# Altium schematic symbol library SamacSys.SchLib: 11 symbols
Pins are listed as number, name and electrical type; pins without a type are passive.

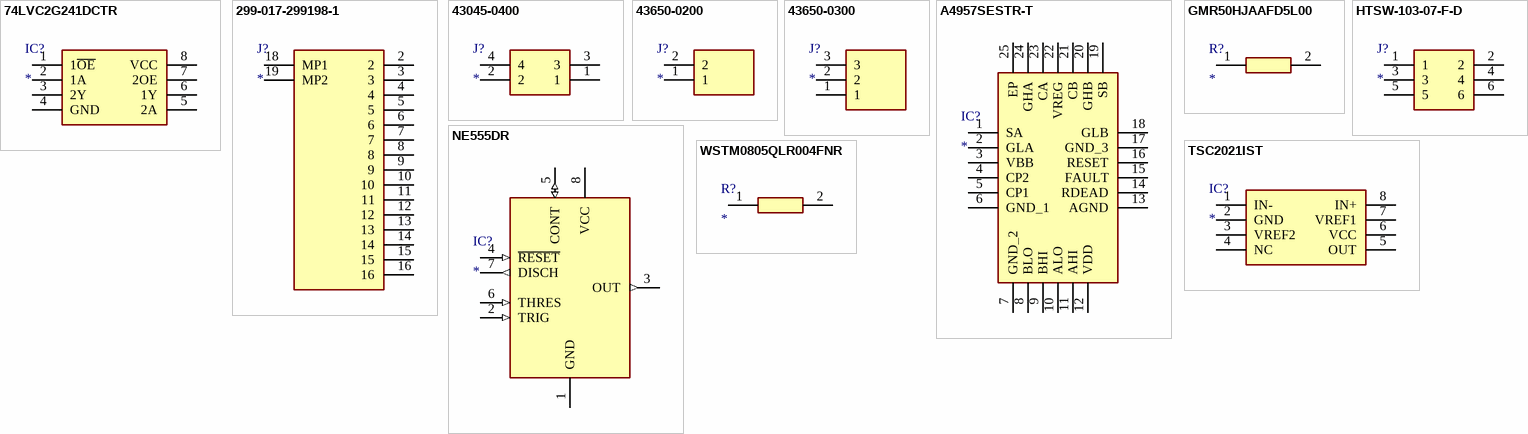
[diagram p0: symbols 74LVC2G241DCTR to WSTM0805QLR004FNR]

## 74LVC2G241DCTR
designator IC?
Integrated Circuit; Manufacturer_Name: Texas Instruments; Manufacturer_Part_Number: 74LVC2G241DCTR; Datasheet Link: https://www.ti.com/lit/gpn/sn74lvc2g241; Height: 1.3mm
footprint SOP65P400X130-8N
pins: 1 1~{OE}, 2 1A, 3 2Y, 4 GND, 5 2A, 6 1Y, 7 2OE, 8 VCC

## 299-017-299198-1
designator J?
Connector; Manufacturer_Name: EDAC; Manufacturer_Part_Number: 299-017-299198-1; Datasheet Link: https://files.edac.net/edac/content/299/299-017-299-198%20-%20EDAC%20SMT%20Card%20Edge%20Connector.pdf; Height: 7.2mm
footprint 2990172991981
pins: 2, 3, 4, 5, 6, 7, 8, 9, 10, 11, 12, 13, 14, 15, 16, 18 MP1, 19 MP2

## 43045-0400
designator J?
Connector; Manufacturer_Name: Molex; Manufacturer_Part_Number: 43045-0400; Datasheet Link: https://www.molex.com/pdm_docs/sd/430450200_sd.pdf; Height: 9.9mm; Mouser Part Number: 538-43045-0400; Mouser Price/Stock: https://www.mouser.co.uk/ProductDetail/Molex/43045-0400?qs=UeCeOHRHQeaIqmxE9Bxdrw%3D%3D
footprint 43045-04(00,01,02,10)
pins: 1, 2, 3, 4

## 43650-0200
designator J?
Connector; Manufacturer_Name: Molex; Manufacturer_Part_Number: 43650-0200; Datasheet Link: https://www.molex.com/pdm_docs/sd/436500200_sd.pdf; Height: 5.57mm; Mouser Part Number: 538-43650-0200; Mouser Price/Stock: https://www.mouser.co.uk/ProductDetail/Molex/43650-0200?qs=HlEFOAM0q6XGaAJJj3Pssw%3D%3D
footprint 43650-02(00,01,02)
pins: 1, 2

## 43650-0300
designator J?
Connector; Manufacturer_Name: Molex; Manufacturer_Part_Number: 43650-0300; Datasheet Link: https://www.molex.com/pdm_docs/sd/436500200_sd.pdf; Height: 13.56mm; Mouser Part Number: 538-43650-0300; Mouser Price/Stock: https://www.mouser.co.uk/ProductDetail/Molex/43650-0300?qs=P7cO%252B%252BFDLzTpuYfoYulxAA%3D%3D; Arrow Part Number: 43650-0300; Arrow Price/Stock: https://www.arrow.com/en/products/43650-0300/molex?region=nac
footprint 436500300
pins: 1, 2, 3

## A4957SESTR-T
designator IC?
Integrated Circuit; Manufacturer_Name: Allegro Microsystems; Manufacturer_Part_Number: A4957SESTR-T; Datasheet Link: http://www.allegromicro.com/~/media/files/datasheets/a4957-datasheet.pdf; Height: 0.8mm; Mouser Part Number: 250-A4957SESTR-T; Mouser Price/Stock: https://www.mouser.co.uk/ProductDetail/Allegro-MicroSystems/A4957SESTR-T?qs=pUKx8fyJudA2fGnjVR3eJA%3D%3D; Arrow Part Number: A4957SESTR-T; Arrow Price/Stock: https://www.arrow.com/en/products/a4957sestr-t/allegro-microsystems?region=nac
footprint A5931GESTR3T
pins: 1 SA, 2 GLA, 3 VBB, 4 CP2, 5 CP1, 6 GND_1, 7 GND_2, 8 BLO, 9 BHI, 10 ALO, 11 AHI, 12 VDD, 13 AGND, 14 RDEAD, 15 FAULT, 16 RESET, 17 GND_3, 18 GLB, 19 SB, 20 GHB, 21 CB, 22 VREG, 23 CA, 24 GHA, 25 EP

## GMR50HJAAFD5L00
designator R?
Resistor; Manufacturer_Name: ROHM Semiconductor; Manufacturer_Part_Number: GMR50HJAAFD5L00; Datasheet Link: https://datasheet.datasheetarchive.com/originals/distributors/Datasheets_SAMA/8766f7ead908a4aa36cac8ef683cf740.pdf; Height: 0.55mm; Mouser Part Number: 755-GMR50HJAAFD5L00; Mouser Price/Stock: https://www.mouser.co.uk/ProductDetail/ROHM-Semiconductor/GMR50HJAAFD5L00?qs=GBLSl2Akirvaz25S3G4Wxw%3D%3D
footprint GMR50HJAAFD5L00
pins: 1, 2

## HTSW-103-07-F-D
designator J?
Connector; Manufacturer_Name: SAMTEC; Manufacturer_Part_Number: HTSW-103-07-F-D; Datasheet Link: https://componentsearchengine.com/Datasheets/2/HTSW-103-07-F-D.pdf; Height: 8.38mm; Mouser Part Number: 200-HTSW10307FD; Mouser Price/Stock: https://www.mouser.co.uk/ProductDetail/Samtec/HTSW-103-07-F-D?qs=rU5fayqh%252BE3zvKcoD3Lwrw%3D%3D; Arrow Part Number: HTSW-103-07-F-D; Arrow Price/Stock: https://www.arrow.com/en/products/htsw-103-07-f-d/samtec
footprint HDRV6W64P254_2X3_762X502X838P
pins: 1, 2, 3, 4, 5, 6

## NE555DR
designator IC?
Integrated Circuit; Manufacturer_Name: Texas Instruments; Manufacturer_Part_Number: NE555DR; Datasheet Link: http://www.ti.com/lit/ds/symlink/ne555.pdf; Height: 1.75mm; Mouser Part Number: 595-NE555DR; Mouser Price/Stock: https://www.mouser.com/Search/Refine.aspx?Keyword=595-NE555DR; RS Part Number: 1218414; RS Price/Stock: http://uk.rs-online.com/web/p/products/1218414
footprint SOIC127P600X175-8N
pins: 1 GND (power), 2 TRIG (in), 3 OUT (out), 4 ~{RESET} (in), 5 CONT (io), 6 THRES (in), 7 DISCH (out), 8 VCC (power)

## TSC2021IST
designator IC?
Integrated Circuit; Manufacturer_Name: STMicroelectronics; Manufacturer_Part_Number: TSC2021IST; Datasheet Link: https://estore.st.com/en/tsc2021ist-cpn.html?ecmp=tt41511_gl_enews_nov2024&mkt_tok=ODU2LVBWUC03MTUAAAGWuMhn1Tb7cVR0K0TaFrdvjlQOQb5haOcqNqt6UVcAKXZE7yBPYRT6UjW4Xf98bFwo06To2N9PFRmhfPV1IYd3sTSpQvM3Ds8drFQaFZRG5z7MKm0; Height: 1.1mm
footprint SOP65P490X110-8N
pins: 1 IN-, 2 GND, 3 VREF2, 4 NC, 5 OUT, 6 VCC, 7 VREF1, 8 IN+

## WSTM0805QLR004FNR
designator R?
Resistor; Manufacturer_Name: LITTELFUSE; Manufacturer_Part_Number: WSTM0805QLR004FNR; Datasheet Link: https://media.digikey.com/pdf/Data%20Sheets/Littelfuse%20PDFs/WSTM_Series_3-17-23.pdf; Height: 0.85mm
footprint RESC2114X85N
pins: 1, 2